# Altium schematic symbol library Schlib1.SchLib: 2 symbols
Pins are listed as number, name and electrical type; pins without a type are passive.

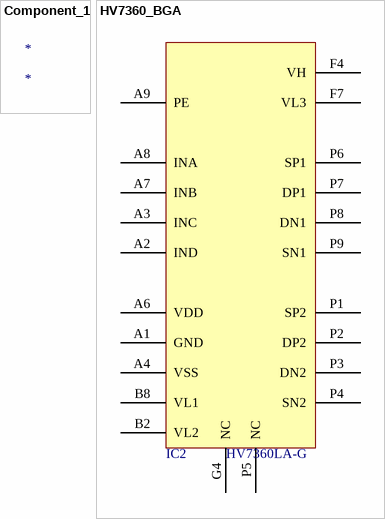
[diagram p0: symbols Component_1 to HV7360_BGA]

## Component_1
designator *

## HV7360_BGA
designator IC2, comment HV7360LA-G
Part Description: High Speed, ±100V 2.5A Two or Three Level Ultrasound Pulser; Manufacturer: Supertex inc.; Table: Analog & Interface; Part Number: HV7360LA-G; Component Kind: Standard; Component Type: Standard; Device: HV7360LA-G; Footprint: HV7360; PackageDescription: High Speed, ±100V 2.5A Two or Three Level Ultrasound Pulser; Manufacturer Part Number: HV7360LA-G; Pin Count: 22; Case: LFGA-22; Mounted: Yes; Socket: No; SMD: Yes; ComponentHeight: 0.85; Author: S. Jafar; CreateDate: 12/20/2015; LatestRevisionDate: 1/6/2016
footprint HV7360_BGA
pins: A1 GND, A2 IND, A3 INC, A4 VSS, A6 VDD, A7 INB, A8 INA, A9 PE, B2 VL2, B8 VL1, F4 VH, F7 VL3, G4 NC, P1 SP2, P2 DP2, P3 DN2, P4 SN2, P5 NC, P6 SP1, P7 DP1, P8 DN1, P9 SN1